# Altium footprint library PCB - CRYSTALS - HC-49SM.PcbLib: 1 footprints
Each footprint in its own frame and in the unit in brackets; x right, y up, seen from the top. Pads: shape width x height; smd on the part's side, far side on the other; paste and mask are expansions set on the pad; w line width, h text height; cw(c..) or ccw(c..) is an arc to the next point about the centre after c.
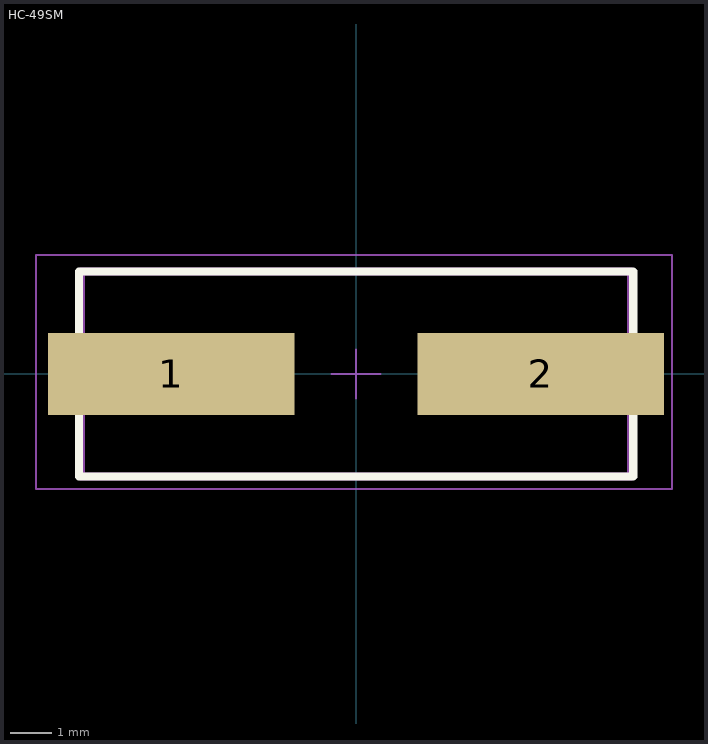
[diagram p0: the footprint, top view; thin cyan lines are the x and y axes]

## HC-49SM [mm]
pads (2):
  rect 6x2 smd: 1(-4.5,0) 2(4.5,0)
Top Overlay:
  lines w0.2: -6.75,-2.5 -6.75,2.5 6.75,2.5 6.75,-2.5 -6.75,-2.5
Top Component Center:
  lines w0.05: -0.6,0 0,0 0,0.6 ; -0.004,-0.602 -0.004,-0.002 0.596,-0.002
Top Assembly:
  lines w0.2: -6.7,-2.5 6.7,-2.5 6.7,2.5 -6.7,2.5 -6.7,-2.5
Top Courtyard:
  lines w0.05: -7.8,-2.8 -7.8,2.9 7.7,2.9 7.7,-2.8 -7.8,-2.8
3D body "HC49S-SMD.stp": height 4.3, standoff 0, extent -6.7,-2.45 6.7,2.45